# EAGLE library part JST_SH_08 (library stepOSP)
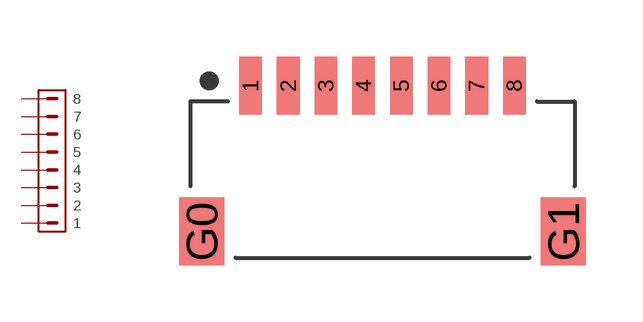
[diagram p46: symbol with the pads of JST_SH_8; footprint JST_SH_8]

Designator prefix -

## JST_SH_08  [JST_SH_8]
1  1
2  2
3  3
4  4
5  5
6  6
7  7
8  8

## Footprint JST_SH_8 (pad centres in mm)
smd 0.6 x 1.55: 1 -3.5,4.575; 2 -2.5,4.575; 3 -1.5,4.575; 4 -0.5,4.575; 5 0.5,4.575; 6 1.5,4.575; 7 2.5,4.575; 8 3.5,4.575
smd 1.2 x 1.8: G0 -4.8,0.7; G1 4.8,0.7